# Altium footprint library Sim.PcbLib: 1 footprints
Each footprint in its own frame and in the unit in brackets; x right, y up, seen from the top. Pads: shape width x height; smd on the part's side, far side on the other; paste and mask are expansions set on the pad; w line width, h text height; cw(c..) or ccw(c..) is an arc to the next point about the centre after c.
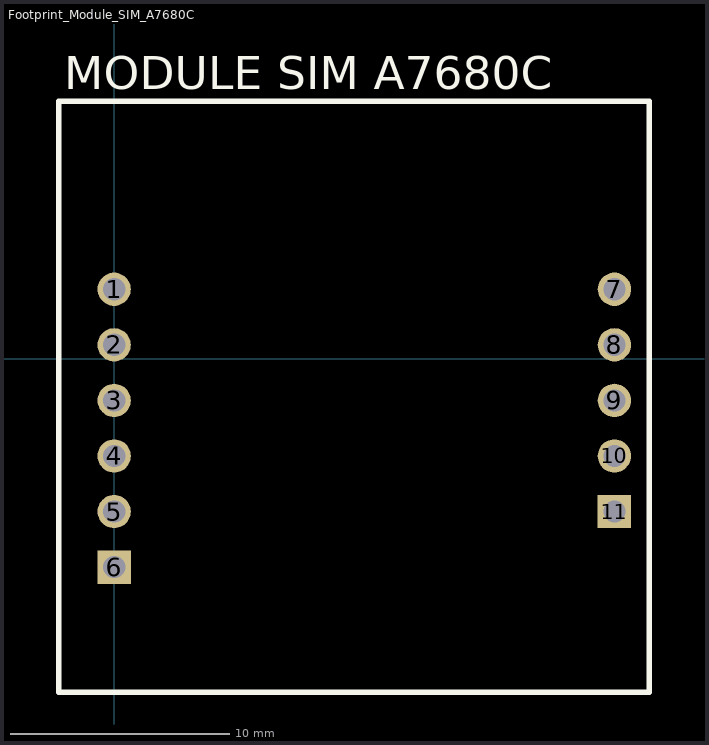
[diagram p0: the footprint, top view; thin cyan lines are the x and y axes]

## Footprint_Module_SIM_A7680C [mil]
pads (11):
  round 60 hole 40: 1(0,125) 2(0,25) 3(0,-75) 4(0,-175) 5(0,-275) 7(900,125) 8(900,25) 9(900,-75) 10(900,-175)
  rect 60x60 hole 40: 6(0,-375) 11(900,-275)
Top Overlay:
  lines w10: -100,-600 -100,462.99 962.99,462.99 962.99,-600 -100,-600
  text "MODULE SIM A7680C" at -90,485 h60
3D body "TDM-4G-V1-3D.STEP": height 66.23, standoff -167.32, extent -40.5,-475 940.5,439.05